# Altium schematic symbol library W25Q64JVXGIQ_TR.SchLib: 1 symbol
Pins are listed as number, name and electrical type; pins without a type are passive.

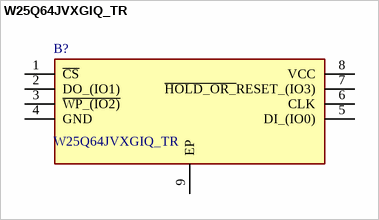
[diagram p0: symbol W25Q64JVXGIQ_TR]

## W25Q64JVXGIQ_TR
designator B?
NOR Flash Serial (SPI, Dual SPI, Quad SPI) 3V/3.3V 64M-bit 8M x 8 6ns 8-Pin XSON EP T/R; Manufacturer_Name: Winbond; Manufacturer_Part_Number: W25Q64JVXGIQ TR; Geometry.Height: 0.5mm; Mouser Part Number: 454-W25Q64JVXGIQTR; Mouser Price/Stock: https://www.mouser.co.uk/ProductDetail/Winbond/W25Q64JVXGIQ-TR?qs=qSfuJ%252Bfl%2Fd5kgMLGcal3yA%3D%3D; Arrow Part Number: W25Q64JVXGIQ TR; Arrow Price/Stock: https://www.arrow.com/en/products/w25q64jvxgiqtr/winbond-electronics?utm_currency=USD&region=nac; Datasheet Link: https://www.mouser.com/datasheet/2/949/w25q64jv_revj_03272018_plus-1489671.pdf
footprint SON80P400X400X50-9N
pins: 1 ~{CS}, 2 DO_(IO1), 3 ~{WP_(IO2)}, 4 GND, 5 DI_(IO0), 6 CLK, 7 ~{HOLD_OR_}RESET_(IO3), 8 VCC, 9 EP